# EAGLE library part TEENSY-3.5/3.6-BREAKOUT-REV-A-DUE (library Teensy-Breakout-Eagle-Library)
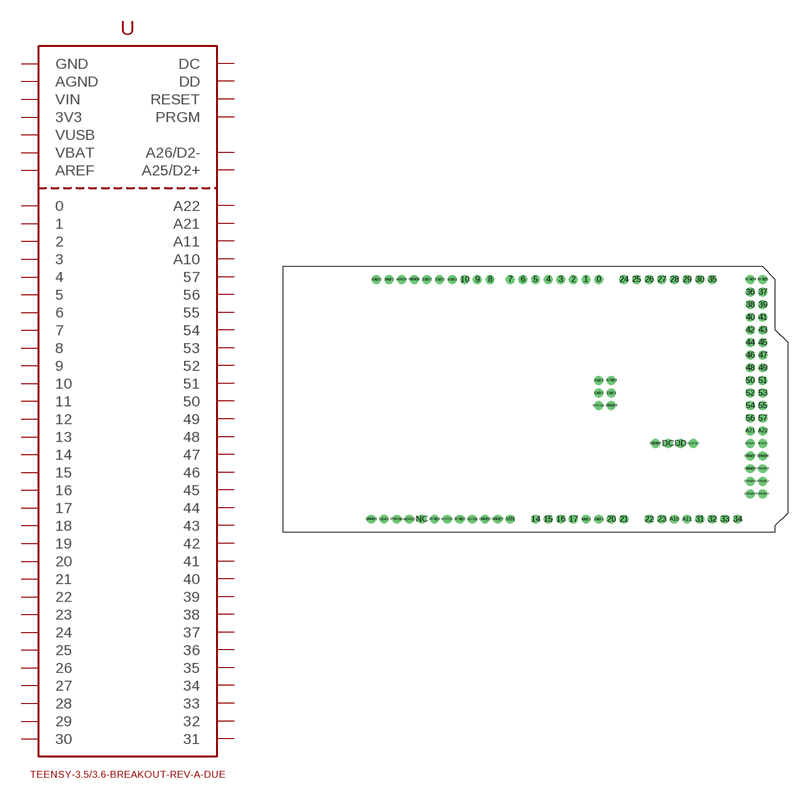
[diagram p10: symbol with the pads of TEENSY-3.5/3.6-BREAKOUT-REV-A-DUE; footprint TEENSY-3.5/3.6-BREAKOUT-REV-A-DUE]

Designator prefix -

## TEENSY-3.5/3.6-BREAKOUT-REV-A-DUE  [TEENSY-3.5/3.6-BREAKOUT-REV-A-DUE]
0  0
1  1
2  2
3  3
3V3@1  3V3
3V3@2  3V3
3V3@3  3V3
3V3@4  3V3
3V3@5  3V3
4  4
5  5
6  6
7  7
8  8
9  9
10  10
11@1  11
11@2  11
12@1  12
12@2  12
13@1  13
13@2  13
14  14
15  15
16  16
17  17
18@1  18
18@2  18
19@1  19
19@2  19
20  20
21  21
22  22
23  23
24  24
25  25
26  26
27  27
28  28
29  29
30  30
31  31
32  32
33  33
34  34
35  35
36  36
37  37
38  38
39  39
40  40
41  41
42  42
43  43
44  44
45  45
46  46
47  47
48  48
49  49
50  50
51  51
52  52
53  53
54  54
55  55
56  56
57  57
A10  A10
A11  A11
A21  A21
A22  A22
A25/D2+  A25/D2+
A26/D2-  A26/D2-
AGND  AGND
AREF  AREF
DC  DC
DD  DD
GND@1  GND
GND@2  GND
GND@3  GND
GND@4  GND
GND@5  GND
GND@6  GND
GND@7  GND
GND@8  GND
GND@9  GND
GND@10  GND
GND@11  GND
GND@12  GND
GND@13  GND
GND@14  GND
PRGM  PRGM
RESET@1  RESET
RESET@2  RESET
RESET@3  RESET
VBAT  VBAT
VIN  VIN
VUSB  VUSB

## Footprint TEENSY-3.5/3.6-BREAKOUT-REV-A-DUE (pad centres in mm)
drill 1.016 pad 1.778: 0 63.5,50.8; 1 60.96,50.8; 2 58.42,50.8; 3 55.88,50.8; 3V3@1 30.48,2.54; 3V3@2 35.56,2.54; 3V3@3 66.04,30.48; 3V3@4 93.98,50.8; 3V3@5 96.52,50.8; 4 53.34,50.8; 5 50.8,50.8; 6 48.26,50.8; 7 45.72,50.8; 8 41.656,50.8; 9 39.116,50.8; 10 36.576,50.8; 11@1 66.04,27.94; 11@2 34.036,50.8; 12@1 63.5,30.48; 12@2 31.496,50.8; 13@1 63.5,27.94; 13@2 28.956,50.8; 14 50.8,2.54; 15 53.34,2.54; 16 55.88,2.54; 17 58.42,2.54; 18@1 60.96,2.54; 18@2 21.336,50.8; 19@1 63.5,2.54; 19@2 18.796,50.8; 20 66.04,2.54; 21 68.58,2.54; 22 73.66,2.54; 23 76.2,2.54; 24 68.58,50.8; 25 71.12,50.8; 26 73.66,50.8; 27 76.2,50.8; 28 78.74,50.8; 29 81.28,50.8; 30 83.82,50.8; 31 83.82,2.54; 32 86.36,2.54; 33 88.9,2.54; 34 91.44,2.54; 35 86.36,50.8; 36 93.98,48.26; 37 96.52,48.26; 38 93.98,45.72; 39 96.52,45.72; 40 93.98,43.18; 41 96.52,43.18; 42 93.98,40.64; 43 96.52,40.64; 44 93.98,38.1; 45 96.52,38.1; 46 93.98,35.56; 47 96.52,35.56; 48 93.98,33.02; 49 96.52,33.02; 50 93.98,30.48; 51 96.52,30.48; 52 93.98,27.94; 53 96.52,27.94; 54 93.98,25.4; 55 96.52,25.4; 56 93.98,22.86; 57 96.52,22.86; A10 78.74,2.54; A11 81.28,2.54; A21 93.98,20.32; A22 96.52,20.32; A25/D2+ 93.98,17.78; A26/D2- 96.52,17.78; AGND 25.4,2.54; AREF 23.876,50.8; DC 77.47,17.78; DD 80.01,17.78; GND@1 17.78,2.54; GND@2 40.64,2.54; GND@3 43.18,2.54; GND@4 66.04,25.4; GND@5 26.416,50.8; GND@6 74.93,17.78; GND@7 93.98,15.24; GND@8 96.52,15.24; GND@9 93.98,12.7; GND@10 96.52,12.7; GND@11 93.98,10.16; GND@12 96.52,10.16; GND@13 93.98,7.62; GND@14 96.52,7.62; NC 27.94,2.54; PRGM 22.86,2.54; RESET@1 33.02,2.54; RESET@2 63.5,25.4; RESET@3 82.55,17.78; VBAT 20.32,2.54; VIN 45.72,2.54; VUSB 38.1,2.54